# EAGLE library part MAX3232CPWG4_MAX3232CPWG4 (library masterboard_b12)
Multichannel RS232 line driver
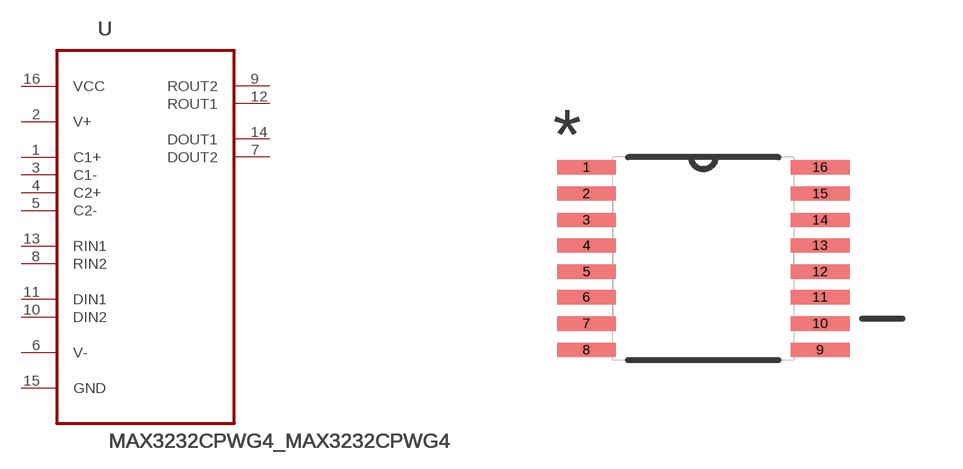
[diagram p9: symbol with the pads of MAX3232CPWG4_SOP65P640X120-16N; footprint MAX3232CPWG4_SOP65P640X120-16N]

Designator prefix U

## MAX3232CPWG4_MAX3232CPWG4 (MPN: MAX3232CPWG4; OC_FARNELL: 1287432; OC_NEWARK: 26M0605; PACKAGE: TSSOP-16; SUPPLIER: Texas Instruments)  [MAX3232CPWG4_SOP65P640X120-16N]
1  C1+  in
2  V+  pwr
3  C1-  in
4  C2+  in
5  C2-  in
6  V-  pwr
7  DOUT2  out
8  RIN2  in
9  ROUT2  out
10  DIN2  in
11  DIN1  in
12  ROUT1  out
13  RIN1  in
14  DOUT1  out
15  GND  pas
16  VCC  pwr

## Footprint MAX3232CPWG4_SOP65P640X120-16N (pad centres in mm)
smd 1.473 x 0.356: 1 -2.921,2.286; 2 -2.921,1.626; 3 -2.921,0.965; 4 -2.921,0.33; 5 -2.921,-0.33; 6 -2.921,-0.965; 7 -2.921,-1.626; 8 -2.921,-2.286; 9 2.921,-2.286; 10 2.921,-1.626; 11 2.921,-0.965; 12 2.921,-0.33; 13 2.921,0.33; 14 2.921,0.965; 15 2.921,1.626; 16 2.921,2.286